# EAGLE library part TLC04/MF4A-50 (library texas)
SWITCHED-CAPACITOR FILTER BUTTERWORTH FOURTH-ORDER LOW-PASS
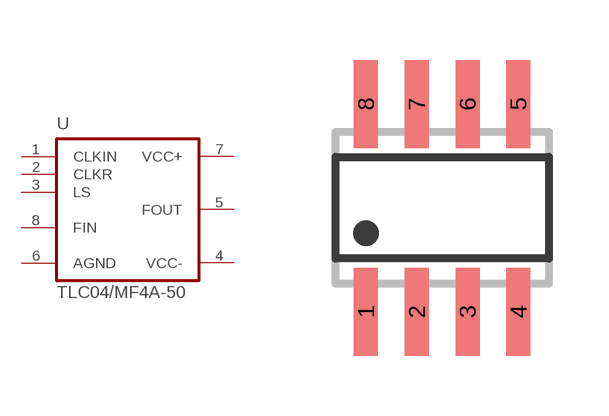
[diagram p26: symbol with the pads of SO08; footprint SO08]

Designator prefix U

## TLC04/MF4A-50  [SO08]
1  CLKIN  in
2  CLKR  in
3  LS  in
4  VCC-  pwr
5  FOUT  out
6  AGND  pwr
7  VCC+  pwr
8  FIN  in

## Footprint SO08 (pad centres in mm)
SMALL OUTLINE INTEGRATED CIRCUIT body 3.9 mm/JEDEC MS-012AA
smd 0.6 x 2.2: 1 -1.905,-2.6; 2 -0.635,-2.6; 3 0.635,-2.6; 4 1.905,-2.6; 5 1.905,2.6; 6 0.635,2.6; 7 -0.635,2.6; 8 -1.905,2.6